# Altium footprint library fszhang.PcbLib: 298 footprints (part 6 of 19)
Each footprint in its own frame and in the unit in brackets; x right, y up, seen from the top. Pads: shape width x height; smd on the part's side, far side on the other; paste and mask are expansions set on the pad; w line width, h text height; cw(c..) or ccw(c..) is an arc to the next point about the centre after c.
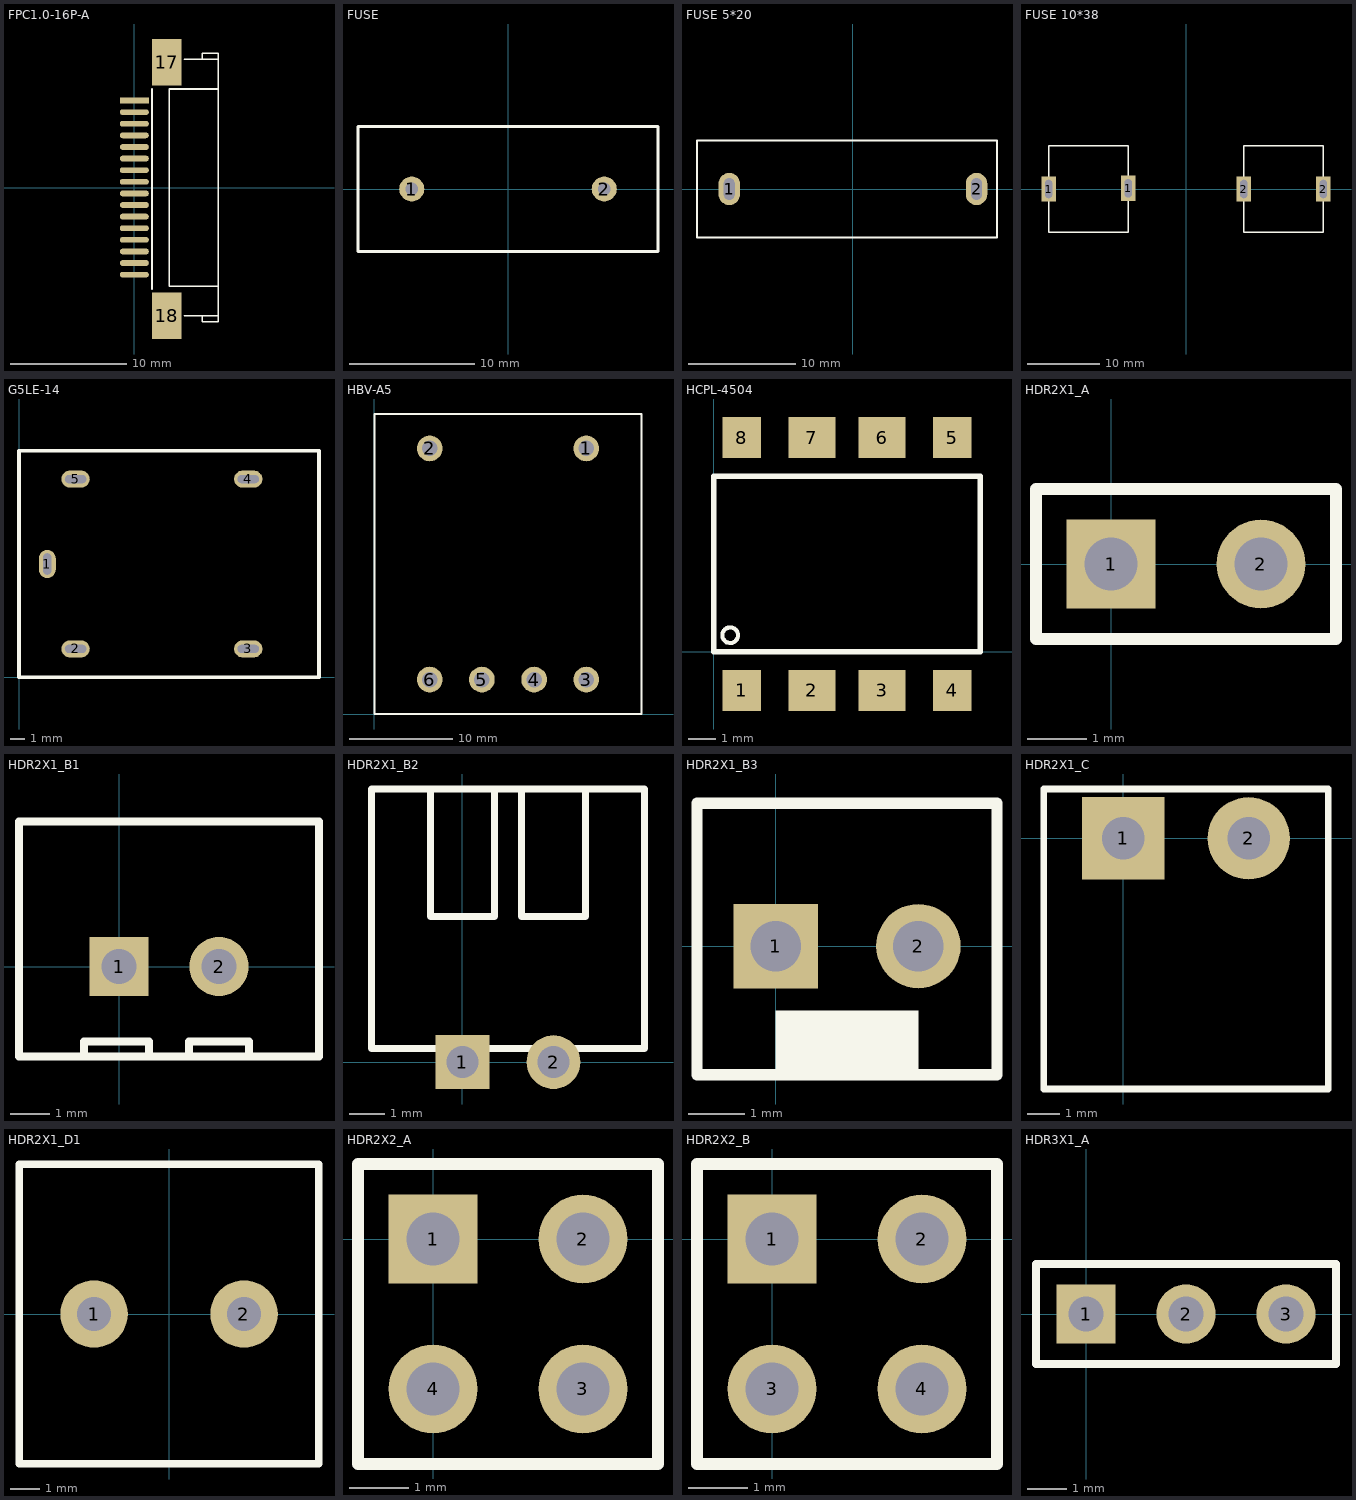
[diagram p5: the footprints below, top view; thin cyan lines are the x and y axes]

## FPC1.0-16P-A [mm] "FPC"
height 1.2
pads (18):
  rect 2.5x0.5 smd: 1(0,7.493)
  oval 2.5x0.5 smd: 2(0,6.493) 3(0,5.493) 4(0,4.493) 5(0,3.493) 6(0,2.493) 7(0,1.493) 8(0,0.493) 9(0,-0.507) 10(0,-1.507) 11(0,-2.507) 12(0,-3.507) 13(0,-4.507) 14(0,-5.507) 15(0,-6.507) 16(0,-7.507)
  rect 2.5x4 smd: 17(2.794,10.795) 18(2.794,-11.049)
Top Overlay:
  lines w0.15: 1.524,-8.763 1.524,8.509 ; 4.318,-11.049 7.224,-11.049 ; 4.318,11.049 7.224,11.049 ; 5.842,11.049 5.842,11.557 7.224,11.557 7.224,11.049 ; 6.096,-11.049 5.842,-11.049 5.842,-11.557 7.224,-11.557 7.224,-11.049 ; 7.224,-8.507 3,-8.507 3,8.493 7.224,8.493 ; 7.224,-11.049 7.224,11.049

## FUSE [mm]
pads (2):
  round 2 hole 1: 1(-7.7,0) 2(7.7,0)
Top Overlay:
  lines w0.254: -12,-5 -12,5 12,5 12,-5 -12,-5

## FUSE 5*20 [mm]
pads (2):
  oval 2x3 hole 1 slot 2 at 90 deg: 1(-11.5,0) 2(11.5,0)
Top Overlay:
  lines w0.2: -14.5,-4.5 -14.5,4.5 13.4,4.5 13.4,-4.5 -14.5,-4.5

## FUSE 10*38 [mm]
pads (4):
  rect 2x3.5 hole 1 slot 2.5 at 90 deg: 1(-19,0) 1(-8,0.1) 2(8,0) 2(19,0)
Top Overlay:
  lines w0.2: -19,-6 -8,-6 -8,6 -19,6 -19,-6 ; 8,-6 8,6 19,6 19,-6 8,-6

## G5LE-14 [mm]
pads (5):
  oval 1.2x2 hole 0.562 slot 1.5 at 90 deg: 1(2,8)
  oval 2x1.2 hole 0.562 slot 1.5 at 0 deg: 2(4,2) 3(16.2,2) 4(16.2,14) 5(4,14)
Top Overlay:
  lines w0.254: 0,0 21.2,0 21.2,16 0,16 0,0

## HBV-A5 [mm]
pads (6):
  round 2.5 hole 1.5: 1(20.62,25.85) 2(5.38,25.85) 3(20.62,3.35) 4(15.54,3.35) 5(10.46,3.35) 6(5.38,3.35)
Top Overlay:
  lines w0.2: 0,0 0,29.2 26,29.2 26,0 0,0

## HCPL-4504 [mm]
pads (8):
  rect 1.4x1.5 smd: 1(1.015,-1.4) 4(8.635,-1.4) 5(8.635,7.75) 8(1.015,7.75)
  rect 1.7x1.5 smd: 2(3.555,-1.4) 3(6.095,-1.4) 6(6.095,7.75) 7(3.555,7.75)
Top Overlay:
  circle w0.15: c0.6,0.6 r0.283
  lines w0.2: 0,0 0,6.35 9.65,6.35 9.65,0 0,0

## HDR2X1_A [mm] "Connector; Header; 2 Position"
height 7.01
pads (2):
  rect 1.5x1.5 hole 0.9: 1(0,0)
  round 1.5 hole 0.9: 2(2.54,0)
Top Overlay:
  lines w0.2: -1.27,-1.27 3.81,-1.27 3.81,1.27 -1.27,1.27 -1.27,-1.27

## HDR2X1_B1 [mm] "Connector; Header; 4 Position"
height 1.6
pads (2):
  rect 1.5x1.5 hole 0.9: 1(0,0)
  round 1.5 hole 0.9: 2(2.54,0)
Top Overlay:
  lines w0.2: -0.889,-2.286 -0.889,-1.905 0.762,-1.905 0.762,-2.286 ; 1.778,-2.286 1.778,-1.905 3.302,-1.905 3.302,-2.286 ; -2.54,-2.286 -2.54,3.683 5.08,3.683 5.08,-2.286 -2.54,-2.286
3D body: height 1.5, standoff 0, extent -2.413,-2.159 5.08,3.556

## HDR2X1_B2 [mm] "Connector; Header; 4 Position"
height 1.6
pads (2):
  rect 1.5x1.5 hole 0.9: 1(0,0)
  round 1.5 hole 0.9: 2(2.54,0)
Top Overlay:
  lines w0.2: -0.889,7.62 -0.889,4.064 0.889,4.064 0.889,7.62 ; 1.651,7.62 1.651,4.064 3.429,4.064 3.429,7.62 ; -2.54,0.381 -2.54,7.62 5.08,7.62 5.08,0.381 -2.54,0.381
3D body: height 1.5, standoff 0, extent -2.54,0.381 5.08,7.62

## HDR2X1_B3 [mm] "Connector; Header; 4 Position"
height 1.6
pads (2):
  rect 1.5x1.5 hole 0.9: 1(0,0)
  round 1.5 hole 0.9: 2(2.54,0)
Top Overlay:
  rectangle: 0,-2.286 2.54,-1.143
  lines w0.2: -1.397,-2.286 -1.397,2.54 3.937,2.54 3.937,-2.286 -1.397,-2.286
3D body: height 1.5, standoff 0, extent -1.397,-2.286 3.937,2.54

## HDR2X1_C [mm] "3.81接插件"
height 7
pads (2):
  rect 2.5x2.5 hole 1.3: 1(0,0)
  round 2.5 hole 1.3: 2(3.81,0)
Top Overlay:
  lines w0.2: -2.413,-7.62 6.223,-7.62 6.223,1.5 -2.413,1.5 -2.413,-7.62
3D body: height 5, standoff 0, extent -2.413,-7.62 6.223,1.397

## HDR2X1_D1 [mil] "5.08mm端子"
height 500
pads (2):
  round 90 hole 45: 1(-100,0) 2(100,0)
Top Overlay:
  lines w10: -200,-200 -200,200 200,200 200,-200 -200,-200

## HDR2X2_A [mm] "Connector; Header; 2 Position"
height 7.01
pads (4):
  rect 1.5x1.5 hole 0.9: 1(0,0)
  round 1.5 hole 0.9: 2(2.54,0) 3(2.54,-2.54) 4(0,-2.54)
Top Overlay:
  lines w0.2: -1.27,-3.81 -1.27,1.27 3.81,1.27 3.81,-3.81 -1.27,-3.81

## HDR2X2_B [mm] "Connector; Header; 2 Position"
height 7.01
pads (4):
  rect 1.5x1.5 hole 0.9: 1(0,0)
  round 1.5 hole 0.9: 2(2.54,0) 3(0,-2.54) 4(2.54,-2.54)
Top Overlay:
  lines w0.2: -1.27,-3.81 3.81,-3.81 3.81,1.27 -1.27,1.27 -1.27,-3.81

## HDR3X1_A [mm] "Connector; Header; 3 Position"
height 1.5
pads (3):
  rect 1.5x1.5 hole 0.9: 1(0,0)
  round 1.5 hole 0.9: 2(2.54,0) 3(5.08,0)
Top Overlay:
  lines w0.2: -1.27,-1.27 -1.27,1.27 6.35,1.27 6.35,-1.27 -1.27,-1.27